# Altium footprint library MOSFET.PcbLib: 1 footprints
Each footprint in its own frame and in the unit in brackets; x right, y up, seen from the top. Pads: shape width x height; smd on the part's side, far side on the other; paste and mask are expansions set on the pad; w line width, h text height; cw(c..) or ccw(c..) is an arc to the next point about the centre after c.
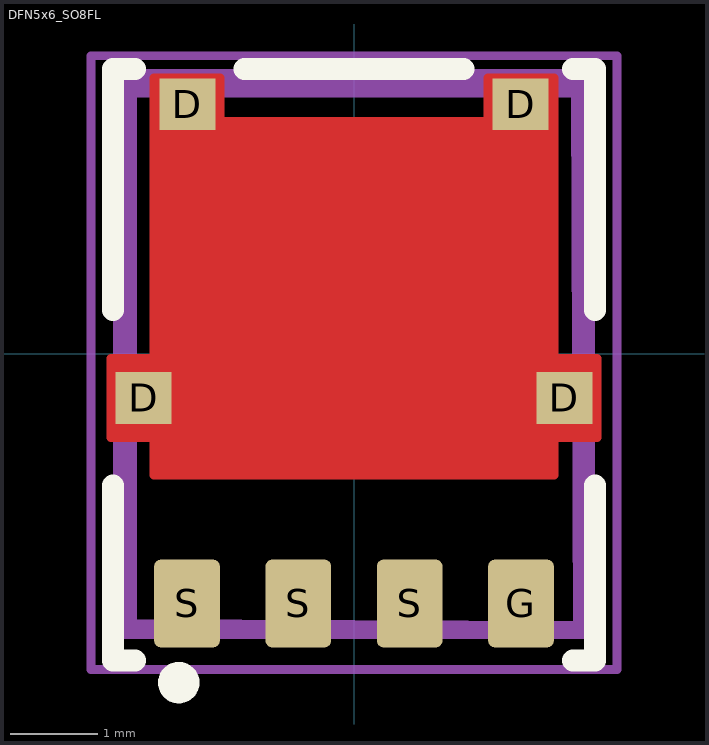
[diagram p0: the footprint, top view; thin cyan lines are the x and y axes]

## DFN5x6_SO8FL [mm] "DFN5 5x6, 1.27P  (SO−8FL)  CASE 488AA  ISSUE M"
pads (8):
  rect 0.64x0.59 smd mask+0: D(-2.4,-0.502) D(-1.9,2.848) D(1.9,2.848) D(2.4,-0.502)
  rrect20% 0.75x1 smd: G(1.905,-2.848)
  rrect20% 0.75x1 smd mask+0.102: S(-1.905,-2.848) S(-0.635,-2.848) S(0.635,-2.848)
Top Layer:
  region: -2.775,-0.957 -2.28,-0.957 -2.28,-1.382 2.28,-1.382 2.28,-0.957 2.775,-0.957 2.775,-0.052 2.28,-0.052 2.28,3.148 1.53,3.148 1.53,2.653 -1.53,2.653 -1.53,3.148 -2.28,3.148 -2.28,-0.052 -2.775,-0.052
  lines w0.1: -2.775,-0.957 -2.775,-0.052 -2.28,-0.052 -2.28,3.148 -1.53,3.148 -1.53,2.653 1.53,2.653 1.53,3.148 2.28,3.148 2.28,-0.052 2.775,-0.052 2.775,-0.957 2.28,-0.957 2.28,-1.382 -2.28,-1.382 -2.28,-0.957 -2.775,-0.957
Top Overlay:
  circle w0.254: c-2,-3.75 r0.109
  lines w0.25: -2.75,-1.5 -2.75,-3.5 -2.5,-3.5 ; -2.75,0.5 -2.75,3.25 -2.5,3.25 ; -1.25,3.25 1.25,3.25 ; 2.5,-3.5 2.75,-3.5 2.75,-1.5 ; 2.5,3.25 2.75,3.25 2.75,0.5
Top Assembly:
  lines w0.2: -2.575,-3.125 -2.575,3.025 2.575,3.025 2.6,-3.15 -2.575,-3.125
Top Component Center:
  lines w0.2: -0.5,0 0.5,0 ; 0,-0.5 0,0.5
Top Component Outline:
  lines w0.2: -2.65,-3.15 2.65,-3.15 2.65,3.15 -2.65,3.15 -2.65,-3.15
Top Courtyard:
  lines w0.1: -3,-3.6 3,-3.6 3,3.4 -3,3.4 -3,-3.6
Top Designator:
  text ".Designator" at -7.618,-0.634 h1.52
3D body "DFN5x6_SO8FL.STEP": height 1.13, standoff 0, extent -2.575,-3.147 2.575,3.003